# Altium schematic symbol library FPGA_Xilinx_Virtex7.SchLib: 34 symbols (part 1 of 26)
Pins are listed as number, name and electrical type; pins without a type are passive.

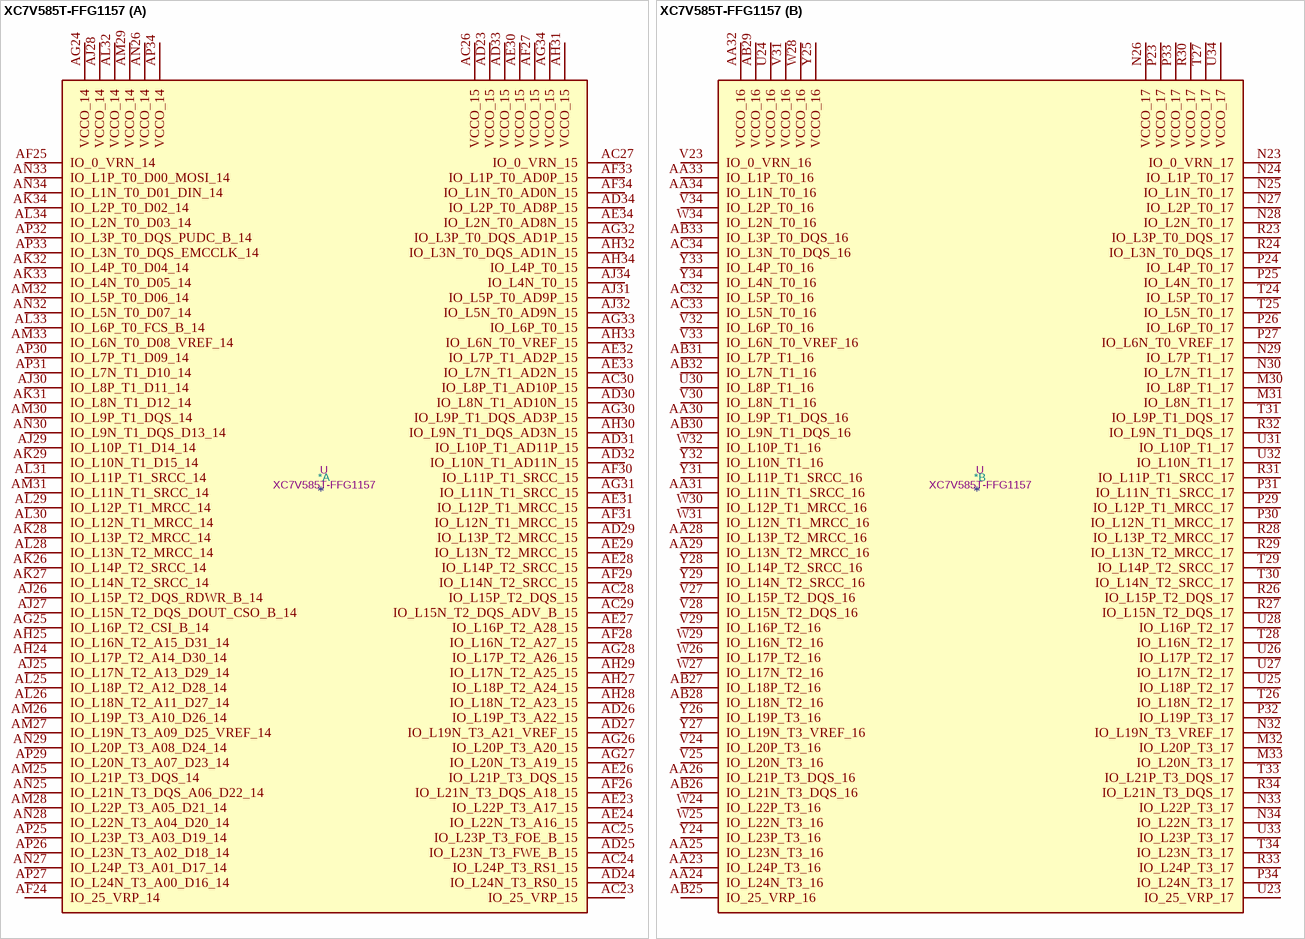
[diagram p0: symbol XC7V585T-FFG1157]

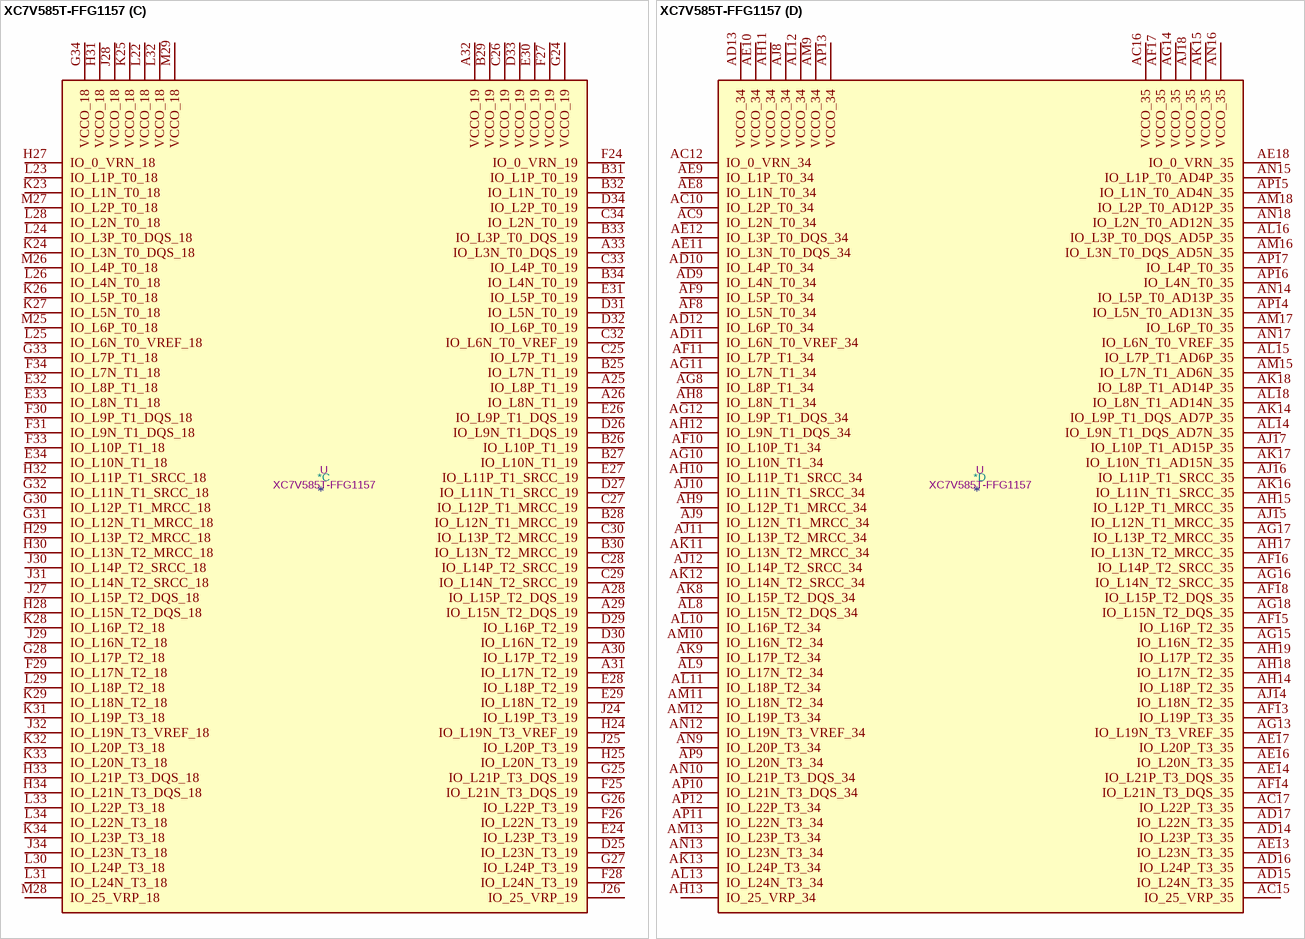
[diagram p1: symbol XC7V585T-FFG1157]

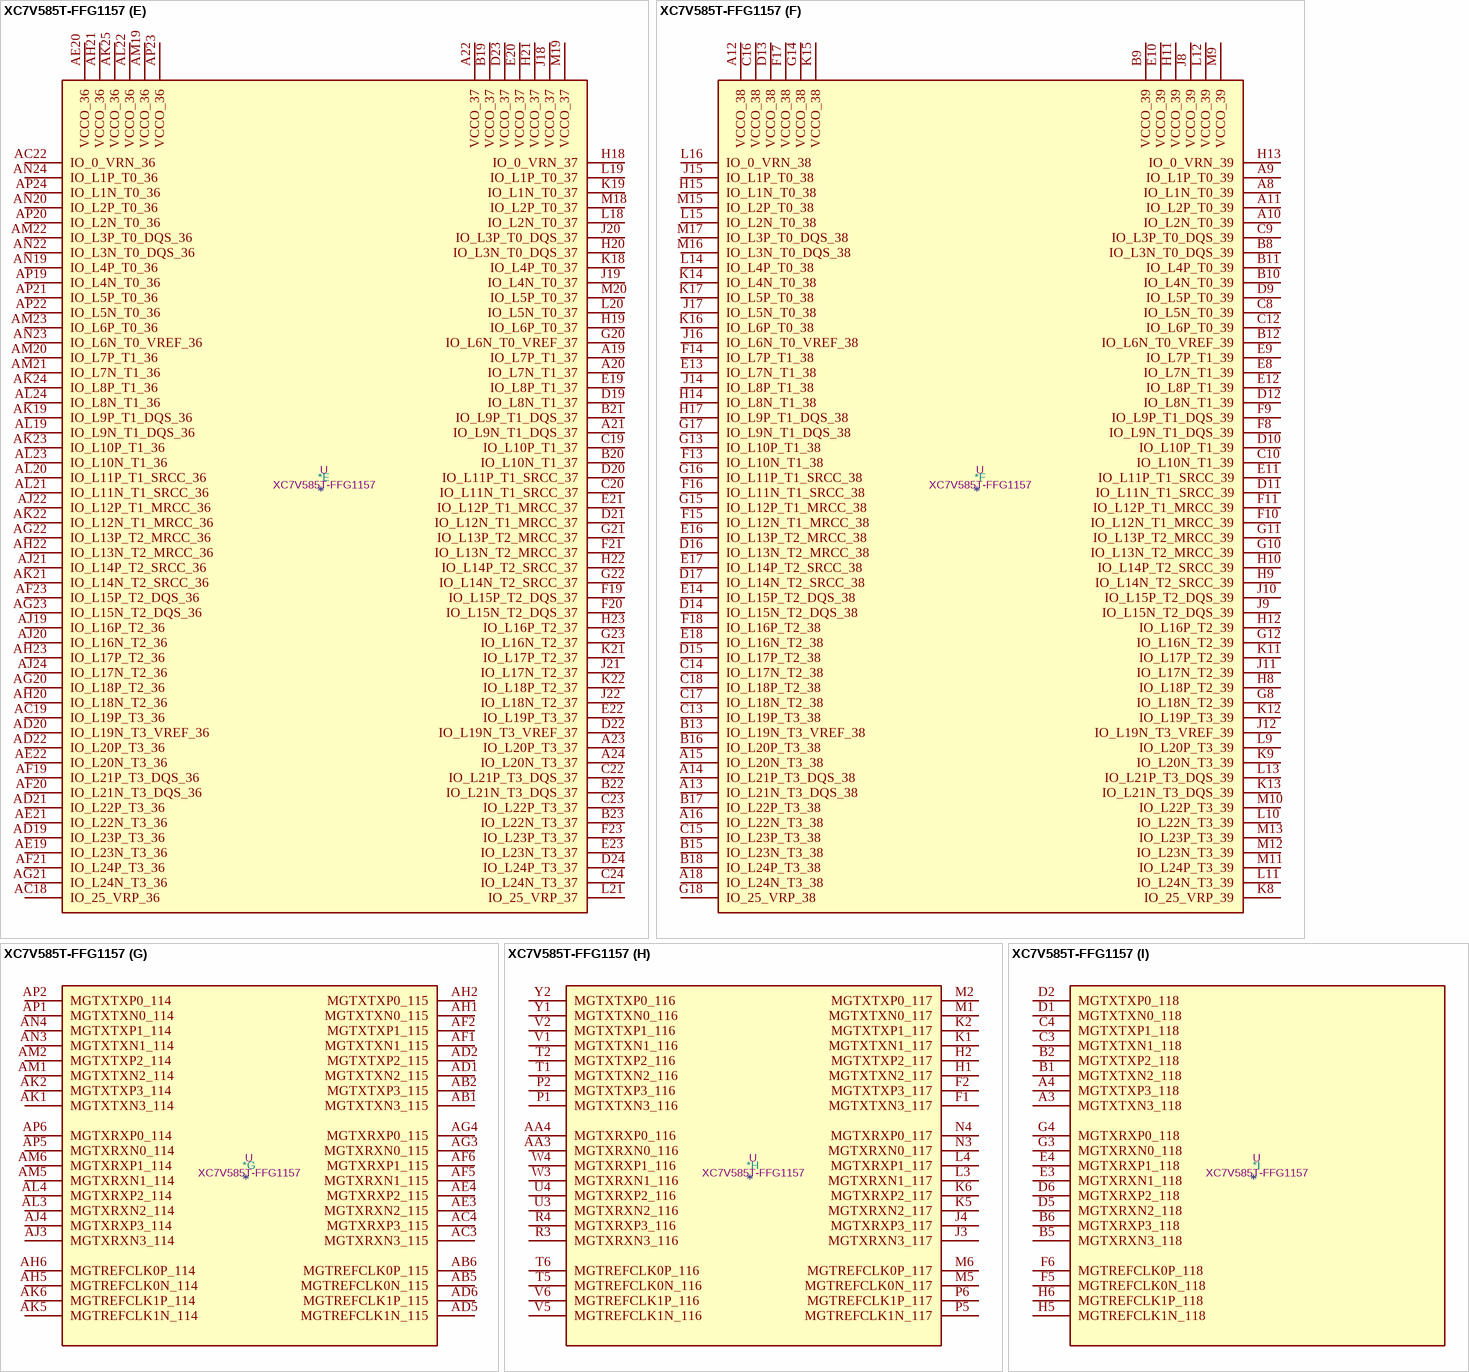
[diagram p2: symbol XC7V585T-FFG1157]

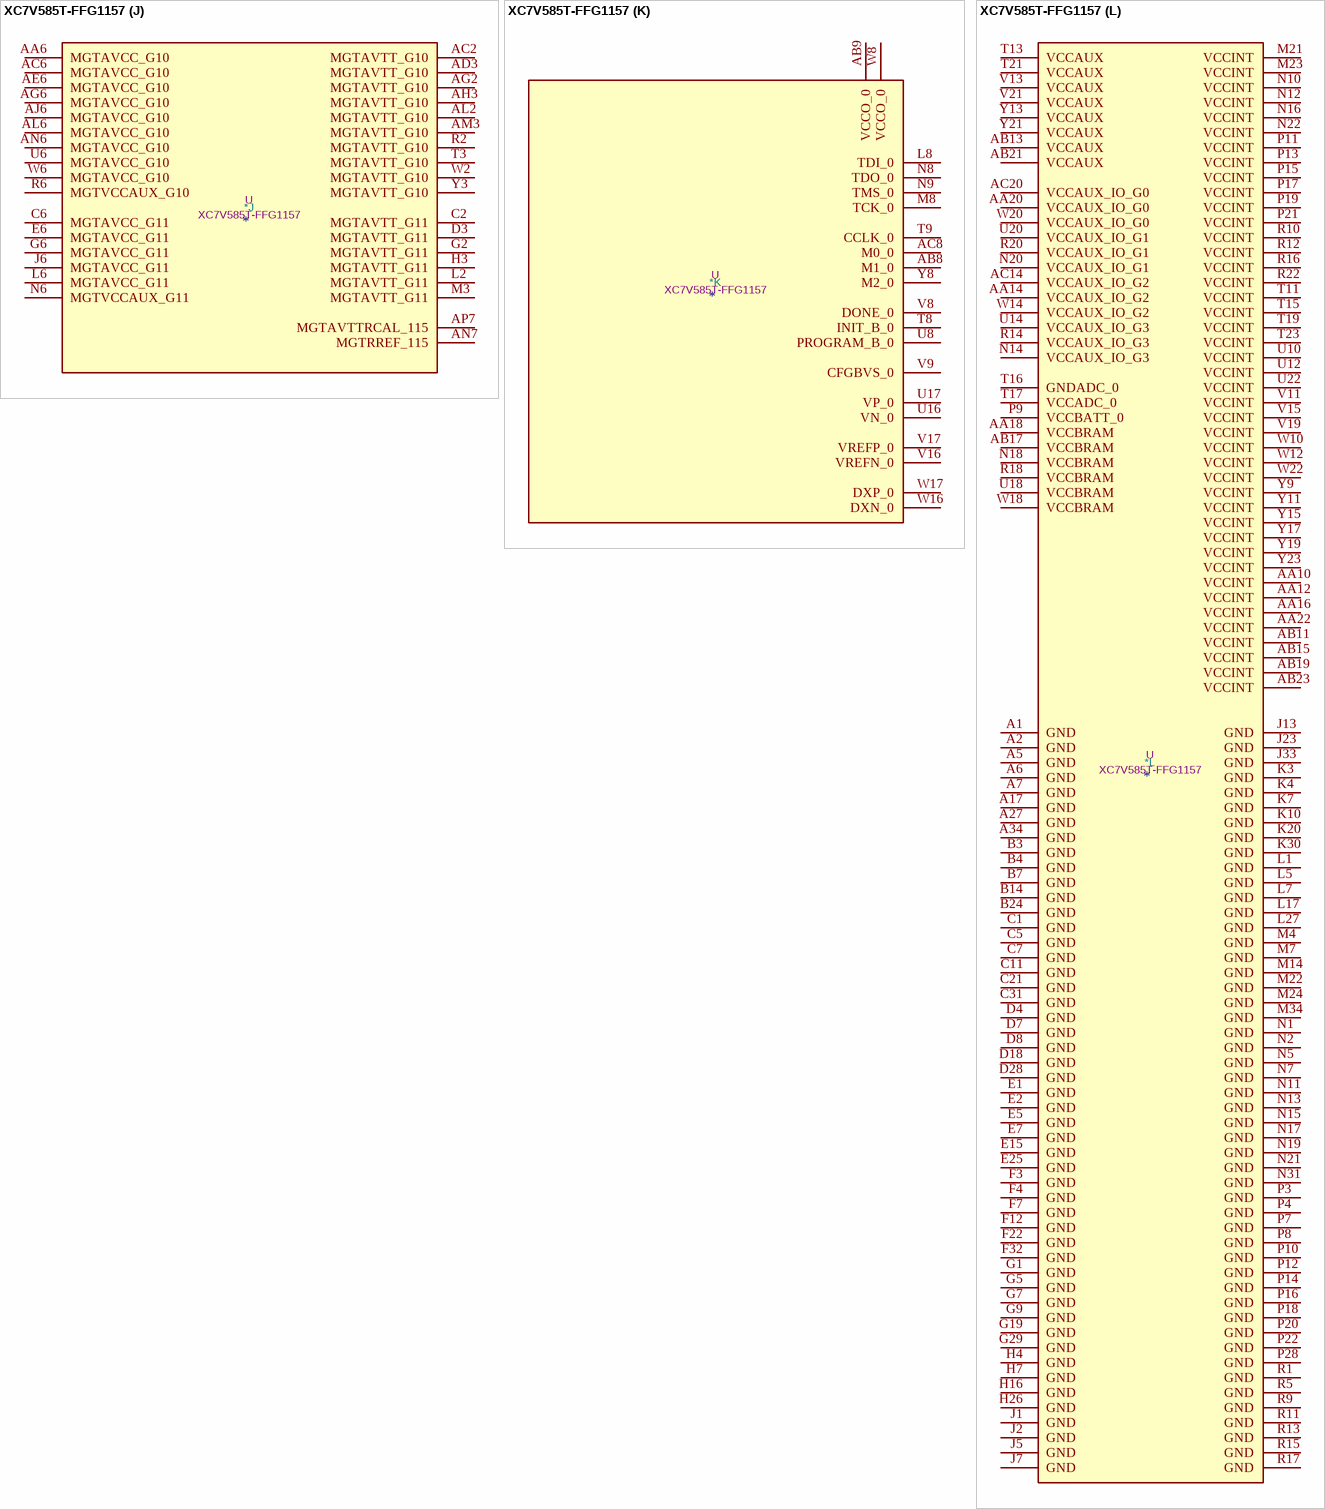
[diagram p3: symbol XC7V585T-FFG1157]

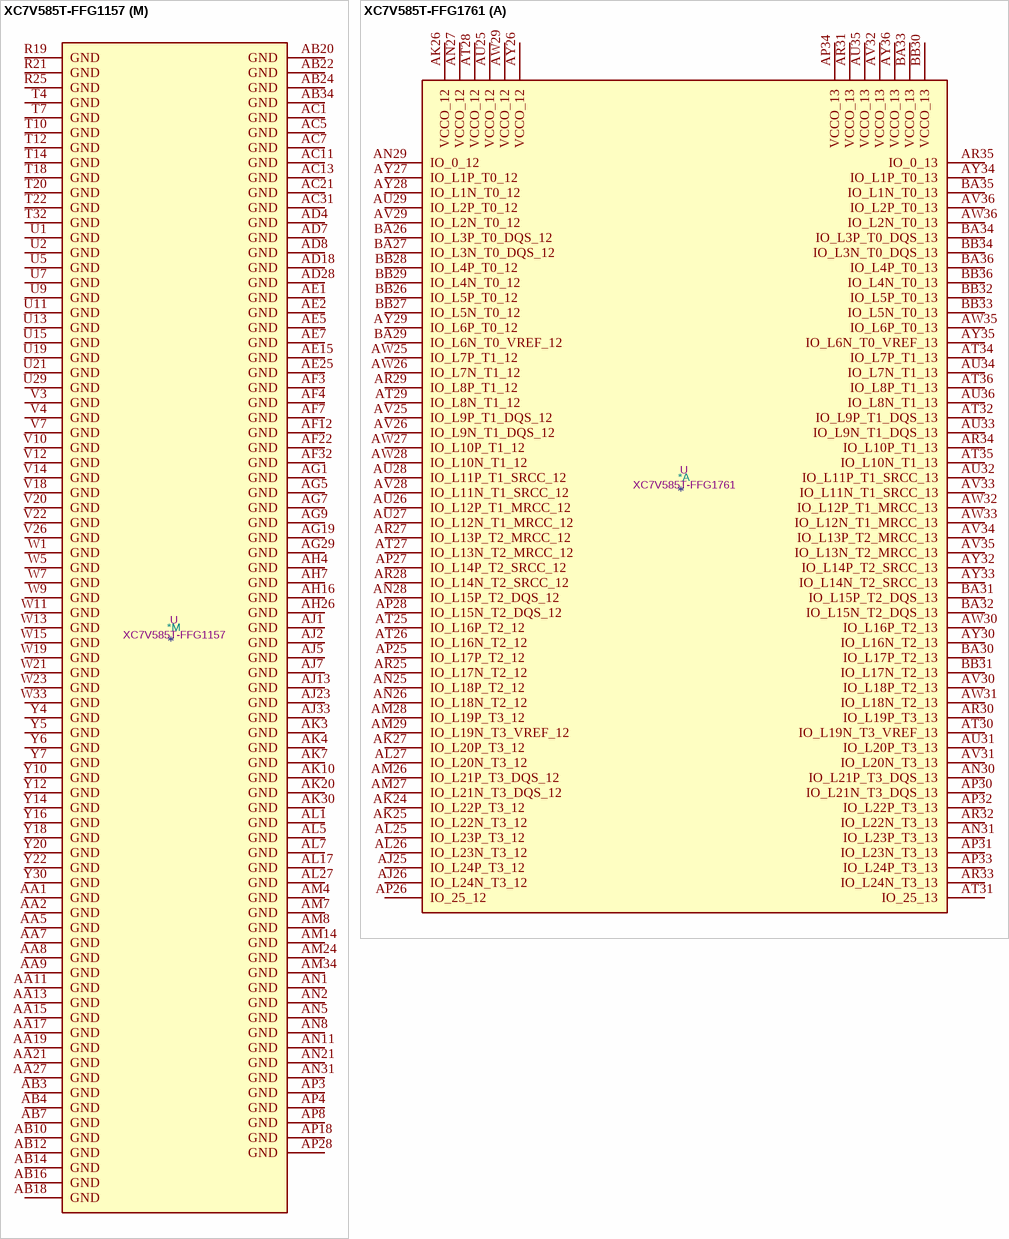
[diagram p4: symbols XC7V585T-FFG1157 to XC7V585T-FFG1761]

## XC7V585T-FFG1157
designator *  value XC7V585T-FFG1157  Reference: U
Virtex 7 T 585 XC7V585T-FFG1157; ki_keywords: FPGA; Description_: Virtex 7 T 585 XC7V585T-FFG1157
part A pins: AC23 IO_25_VRP_15, AC24 IO_L24P_T3_RS1_15, AC25 IO_L23P_T3_FOE_B_15, AC26 VCCO_15, AC27 IO_0_VRN_15, AC28 IO_L15P_T2_DQS_15, AC29 IO_L15N_T2_DQS_ADV_B_15, AC30 IO_L8P_T1_AD10P_15, AD23 VCCO_15, AD24 IO_L24N_T3_RS0_15, AD25 IO_L23N_T3_FWE_B_15, AD26 IO_L19P_T3_A22_15, AD27 IO_L19N_T3_A21_VREF_15, AD29 IO_L13P_T2_MRCC_15, AD30 IO_L8N_T1_AD10N_15, AD31 IO_L10P_T1_AD11P_15, AD32 IO_L10N_T1_AD11N_15, AD33 VCCO_15, AD34 IO_L2P_T0_AD8P_15, AE23 IO_L22P_T3_A17_15, AE24 IO_L22N_T3_A16_15, AE26 IO_L21P_T3_DQS_15, AE27 IO_L16P_T2_A28_15, AE28 IO_L14P_T2_SRCC_15, AE29 IO_L13N_T2_MRCC_15, AE30 VCCO_15, AE31 IO_L12P_T1_MRCC_15, AE32 IO_L7P_T1_AD2P_15, AE33 IO_L7N_T1_AD2N_15, AE34 IO_L2N_T0_AD8N_15, AF24 IO_25_VRP_14, AF25 IO_0_VRN_14, AF26 IO_L21N_T3_DQS_A18_15, AF27 VCCO_15, AF28 IO_L16N_T2_A27_15, AF29 IO_L14N_T2_SRCC_15, AF30 IO_L11P_T1_SRCC_15, AF31 IO_L12N_T1_MRCC_15, AF33 IO_L1P_T0_AD0P_15, AF34 IO_L1N_T0_AD0N_15, AG24 VCCO_14, AG25 IO_L16P_T2_CSI_B_14, AG26 IO_L20P_T3_A20_15, AG27 IO_L20N_T3_A19_15, AG28 IO_L17P_T2_A26_15, AG30 IO_L9P_T1_DQS_AD3P_15, AG31 IO_L11N_T1_SRCC_15, AG32 IO_L3P_T0_DQS_AD1P_15, AG33 IO_L6P_T0_15, AG34 VCCO_15, AH24 IO_L17P_T2_A14_D30_14, AH25 IO_L16N_T2_A15_D31_14, AH27 IO_L18P_T2_A24_15, AH28 IO_L18N_T2_A23_15, AH29 IO_L17N_T2_A25_15, AH30 IO_L9N_T1_DQS_AD3N_15, AH31 VCCO_15, AH32 IO_L3N_T0_DQS_AD1N_15, AH33 IO_L6N_T0_VREF_15, AH34 IO_L4P_T0_15, AJ25 IO_L17N_T2_A13_D29_14, AJ26 IO_L15P_T2_DQS_RDWR_B_14, AJ27 IO_L15N_T2_DQS_DOUT_CSO_B_14, AJ28 VCCO_14, AJ29 IO_L10P_T1_D14_14, AJ30 IO_L8P_T1_D11_14, AJ31 IO_L5P_T0_AD9P_15, AJ32 IO_L5N_T0_AD9N_15, AJ34 IO_L4N_T0_15, AK26 IO_L14P_T2_SRCC_14, AK27 IO_L14N_T2_SRCC_14, AK28 IO_L13P_T2_MRCC_14, AK29 IO_L10N_T1_D15_14, AK31 IO_L8N_T1_D12_14, AK32 IO_L4P_T0_D04_14, AK33 IO_L4N_T0_D05_14, AK34 IO_L2P_T0_D02_14, AL25 IO_L18P_T2_A12_D28_14, AL26 IO_L18N_T2_A11_D27_14, AL28 IO_L13N_T2_MRCC_14, AL29 IO_L12P_T1_MRCC_14, AL30 IO_L12N_T1_MRCC_14, AL31 IO_L11P_T1_SRCC_14, AL32 VCCO_14, AL33 IO_L6P_T0_FCS_B_14, AL34 IO_L2N_T0_D03_14, AM25 IO_L21P_T3_DQS_14, AM26 IO_L19P_T3_A10_D26_14, AM27 IO_L19N_T3_A09_D25_VREF_14, AM28 IO_L22P_T3_A05_D21_14, AM29 VCCO_14, AM30 IO_L9P_T1_DQS_14, AM31 IO_L11N_T1_SRCC_14, AM32 IO_L5P_T0_D06_14, AM33 IO_L6N_T0_D08_VREF_14, AN25 IO_L21N_T3_DQS_A06_D22_14, AN26 VCCO_14, AN27 IO_L24P_T3_A01_D17_14, AN28 IO_L22N_T3_A04_D20_14, AN29 IO_L20P_T3_A08_D24_14, AN30 IO_L9N_T1_DQS_D13_14, AN32 IO_L5N_T0_D07_14, AN33 IO_L1P_T0_D00_MOSI_14, AN34 IO_L1N_T0_D01_DIN_14, AP25 IO_L23P_T3_A03_D19_14, AP26 IO_L23N_T3_A02_D18_14, AP27 IO_L24N_T3_A00_D16_14, AP29 IO_L20N_T3_A07_D23_14, AP30 IO_L7P_T1_D09_14, AP31 IO_L7N_T1_D10_14, AP32 IO_L3P_T0_DQS_PUDC_B_14, AP33 IO_L3N_T0_DQS_EMCCLK_14, AP34 VCCO_14
part B pins: AA23 IO_L24P_T3_16, AA24 IO_L24N_T3_16, AA25 IO_L23N_T3_16, AA26 IO_L21P_T3_DQS_16, AA28 IO_L13P_T2_MRCC_16, AA29 IO_L13N_T2_MRCC_16, AA30 IO_L9P_T1_DQS_16, AA31 IO_L11N_T1_SRCC_16, AA32 VCCO_16, AA33 IO_L1P_T0_16, AA34 IO_L1N_T0_16, AB25 IO_25_VRP_16, AB26 IO_L21N_T3_DQS_16, AB27 IO_L18P_T2_16, AB28 IO_L18N_T2_16, AB29 VCCO_16, AB30 IO_L9N_T1_DQS_16, AB31 IO_L7P_T1_16, AB32 IO_L7N_T1_16, AB33 IO_L3P_T0_DQS_16, AC32 IO_L5P_T0_16, AC33 IO_L5N_T0_16, AC34 IO_L3N_T0_DQS_16, M30 IO_L8P_T1_17, M31 IO_L8N_T1_17, M32 IO_L20P_T3_17, M33 IO_L20N_T3_17, N23 IO_0_VRN_17, N24 IO_L1P_T0_17, N25 IO_L1N_T0_17, N26 VCCO_17, N27 IO_L2P_T0_17, N28 IO_L2N_T0_17, N29 IO_L7P_T1_17, N30 IO_L7N_T1_17, N32 IO_L19N_T3_VREF_17, N33 IO_L22P_T3_17, N34 IO_L22N_T3_17, P23 VCCO_17, P24 IO_L4P_T0_17, P25 IO_L4N_T0_17, P26 IO_L6P_T0_17, P27 IO_L6N_T0_VREF_17, P29 IO_L12P_T1_MRCC_17, P30 IO_L12N_T1_MRCC_17, P31 IO_L11N_T1_SRCC_17, P32 IO_L19P_T3_17, P33 VCCO_17, P34 IO_L24N_T3_17, R23 IO_L3P_T0_DQS_17, R24 IO_L3N_T0_DQS_17, R26 IO_L15P_T2_DQS_17, R27 IO_L15N_T2_DQS_17, R28 IO_L13P_T2_MRCC_17, R29 IO_L13N_T2_MRCC_17, R30 VCCO_17, R31 IO_L11P_T1_SRCC_17, R32 IO_L9N_T1_DQS_17, R33 IO_L24P_T3_17, R34 IO_L21N_T3_DQS_17, T24 IO_L5P_T0_17, T25 IO_L5N_T0_17, T26 IO_L18N_T2_17, T27 VCCO_17, T28 IO_L16N_T2_17, T29 IO_L14P_T2_SRCC_17, T30 IO_L14N_T2_SRCC_17, T31 IO_L9P_T1_DQS_17, T33 IO_L21P_T3_DQS_17, T34 IO_L23N_T3_17, U23 IO_25_VRP_17, U24 VCCO_16, U25 IO_L18P_T2_17, U26 IO_L17P_T2_17, U27 IO_L17N_T2_17, U28 IO_L16P_T2_17, U30 IO_L8P_T1_16, U31 IO_L10P_T1_17, U32 IO_L10N_T1_17, U33 IO_L23P_T3_17, U34 VCCO_17, V23 IO_0_VRN_16, V24 IO_L20P_T3_16, V25 IO_L20N_T3_16, V27 IO_L15P_T2_DQS_16, V28 IO_L15N_T2_DQS_16, V29 IO_L16P_T2_16, V30 IO_L8N_T1_16, V31 VCCO_16, V32 IO_L6P_T0_16, V33 IO_L6N_T0_VREF_16, V34 IO_L2P_T0_16, W24 IO_L22P_T3_16, W25 IO_L22N_T3_16, W26 IO_L17P_T2_16, W27 IO_L17N_T2_16, W28 VCCO_16, W29 IO_L16N_T2_16, W30 IO_L12P_T1_MRCC_16, W31 IO_L12N_T1_MRCC_16, W32 IO_L10P_T1_16, W34 IO_L2N_T0_16, Y24 IO_L23P_T3_16, Y25 VCCO_16, Y26 IO_L19P_T3_16, Y27 IO_L19N_T3_VREF_16, Y28 IO_L14P_T2_SRCC_16, Y29 IO_L14N_T2_SRCC_16, Y31 IO_L11P_T1_SRCC_16, Y32 IO_L10N_T1_16, Y33 IO_L4P_T0_16, Y34 IO_L4N_T0_16
part C pins: A25 IO_L8P_T1_19, A26 IO_L8N_T1_19, A28 IO_L15P_T2_DQS_19, A29 IO_L15N_T2_DQS_19, A30 IO_L17P_T2_19, A31 IO_L17N_T2_19, A32 VCCO_19, A33 IO_L3N_T0_DQS_19, B25 IO_L7N_T1_19, B26 IO_L10P_T1_19, B27 IO_L10N_T1_19, B28 IO_L12N_T1_MRCC_19, B29 VCCO_19, B30 IO_L13N_T2_MRCC_19, B31 IO_L1P_T0_19, B32 IO_L1N_T0_19, B33 IO_L3P_T0_DQS_19, B34 IO_L4N_T0_19, C25 IO_L7P_T1_19, C26 VCCO_19, C27 IO_L12P_T1_MRCC_19, C28 IO_L14P_T2_SRCC_19, C29 IO_L14N_T2_SRCC_19, C30 IO_L13P_T2_MRCC_19, C32 IO_L6N_T0_VREF_19, C33 IO_L4P_T0_19, C34 IO_L2N_T0_19, D25 IO_L23N_T3_19, D26 IO_L9N_T1_DQS_19, D27 IO_L11N_T1_SRCC_19, D29 IO_L16P_T2_19, D30 IO_L16N_T2_19, D31 IO_L5N_T0_19, D32 IO_L6P_T0_19, D33 VCCO_19, D34 IO_L2P_T0_19, E24 IO_L23P_T3_19, E26 IO_L9P_T1_DQS_19, E27 IO_L11P_T1_SRCC_19, E28 IO_L18P_T2_19, E29 IO_L18N_T2_19, E30 VCCO_19, E31 IO_L5P_T0_19, E32 IO_L8P_T1_18, E33 IO_L8N_T1_18, E34 IO_L10N_T1_18, F24 IO_0_VRN_19, F25 IO_L21N_T3_DQS_19, F26 IO_L22N_T3_19, F27 VCCO_19, F28 IO_L24N_T3_19, F29 IO_L17N_T2_18, F30 IO_L9P_T1_DQS_18, F31 IO_L9N_T1_DQS_18, F33 IO_L10P_T1_18, F34 IO_L7N_T1_18, G24 VCCO_19, G25 IO_L21P_T3_DQS_19, G26 IO_L22P_T3_19, G27 IO_L24P_T3_19, G28 IO_L17P_T2_18, G30 IO_L12P_T1_MRCC_18, G31 IO_L12N_T1_MRCC_18, G32 IO_L11N_T1_SRCC_18, G33 IO_L7P_T1_18, G34 VCCO_18, H24 IO_L19N_T3_VREF_19, H25 IO_L20N_T3_19, H27 IO_0_VRN_18, H28 IO_L15N_T2_DQS_18, H29 IO_L13P_T2_MRCC_18, H30 IO_L13N_T2_MRCC_18, H31 VCCO_18, H32 IO_L11P_T1_SRCC_18, H33 IO_L21P_T3_DQS_18, H34 IO_L21N_T3_DQS_18, J24 IO_L19P_T3_19, J25 IO_L20P_T3_19, J26 IO_25_VRP_19, J27 IO_L15P_T2_DQS_18, J28 VCCO_18, J29 IO_L16N_T2_18, J30 IO_L14P_T2_SRCC_18, J31 IO_L14N_T2_SRCC_18, J32 IO_L19N_T3_VREF_18, J34 IO_L23N_T3_18, K23 IO_L1N_T0_18, K24 IO_L3N_T0_DQS_18, K25 VCCO_18, K26 IO_L5P_T0_18, K27 IO_L5N_T0_18, K28 IO_L16P_T2_18, K29 IO_L18N_T2_18, K31 IO_L19P_T3_18, K32 IO_L20P_T3_18, K33 IO_L20N_T3_18, K34 IO_L23P_T3_18, L22 VCCO_18, L23 IO_L1P_T0_18, L24 IO_L3P_T0_DQS_18, L25 IO_L6N_T0_VREF_18, L26 IO_L4N_T0_18, L28 IO_L2N_T0_18, L29 IO_L18P_T2_18, L30 IO_L24P_T3_18, L31 IO_L24N_T3_18, L32 VCCO_18, L33 IO_L22P_T3_18, L34 IO_L22N_T3_18, M25 IO_L6P_T0_18, M26 IO_L4P_T0_18, M27 IO_L2P_T0_18, M28 IO_25_VRP_18, M29 VCCO_18
part D pins: AC9 IO_L2N_T0_34, AC10 IO_L2P_T0_34, AC12 IO_0_VRN_34, AC15 IO_25_VRP_35, AC16 VCCO_35, AC17 IO_L22P_T3_35, AD9 IO_L4N_T0_34, AD10 IO_L4P_T0_34, AD11 IO_L6N_T0_VREF_34, AD12 IO_L6P_T0_34, AD13 VCCO_34, AD14 IO_L23P_T3_35, AD15 IO_L24N_T3_35, AD16 IO_L24P_T3_35, AD17 IO_L22N_T3_35, AE8 IO_L1N_T0_34, AE9 IO_L1P_T0_34, AE10 VCCO_34, AE11 IO_L3N_T0_DQS_34, AE12 IO_L3P_T0_DQS_34, AE13 IO_L23N_T3_35, AE14 IO_L21P_T3_DQS_35, AE16 IO_L20N_T3_35, AE17 IO_L20P_T3_35, AE18 IO_0_VRN_35, AF8 IO_L5N_T0_34, AF9 IO_L5P_T0_34, AF10 IO_L10P_T1_34, AF11 IO_L7P_T1_34, AF13 IO_L19P_T3_35, AF14 IO_L21N_T3_DQS_35, AF15 IO_L16P_T2_35, AF16 IO_L14P_T2_SRCC_35, AF17 VCCO_35, AF18 IO_L15P_T2_DQS_35, AG8 IO_L8P_T1_34, AG10 IO_L10N_T1_34, AG11 IO_L7N_T1_34, AG12 IO_L9P_T1_DQS_34, AG13 IO_L19N_T3_VREF_35, AG14 VCCO_35, AG15 IO_L16N_T2_35, AG16 IO_L14N_T2_SRCC_35, AG17 IO_L13P_T2_MRCC_35, AG18 IO_L15N_T2_DQS_35, AH8 IO_L8N_T1_34, AH9 IO_L12P_T1_MRCC_34, AH10 IO_L11P_T1_SRCC_34, AH11 VCCO_34, AH12 IO_L9N_T1_DQS_34, AH13 IO_25_VRP_34, AH14 IO_L18P_T2_35, AH15 IO_L12P_T1_MRCC_35, AH17 IO_L13N_T2_MRCC_35, AH18 IO_L17N_T2_35, AH19 IO_L17P_T2_35, AJ8 VCCO_34, AJ9 IO_L12N_T1_MRCC_34, AJ10 IO_L11N_T1_SRCC_34, AJ11 IO_L13P_T2_MRCC_34, AJ12 IO_L14P_T2_SRCC_34, AJ14 IO_L18N_T2_35, AJ15 IO_L12N_T1_MRCC_35, AJ16 IO_L11P_T1_SRCC_35, AJ17 IO_L10P_T1_AD15P_35, AJ18 VCCO_35, AK8 IO_L15P_T2_DQS_34, AK9 IO_L17P_T2_34, AK11 IO_L13N_T2_MRCC_34, AK12 IO_L14N_T2_SRCC_34, AK13 IO_L24P_T3_34, AK14 IO_L9P_T1_DQS_AD7P_35, AK15 VCCO_35, AK16 IO_L11N_T1_SRCC_35, AK17 IO_L10N_T1_AD15N_35, AK18 IO_L8P_T1_AD14P_35, AL8 IO_L15N_T2_DQS_34, AL9 IO_L17N_T2_34, AL10 IO_L16P_T2_34, AL11 IO_L18P_T2_34, AL12 VCCO_34, AL13 IO_L24N_T3_34, AL14 IO_L9N_T1_DQS_AD7N_35, AL15 IO_L7P_T1_AD6P_35, AL16 IO_L3P_T0_DQS_AD5P_35, AL18 IO_L8N_T1_AD14N_35, AM9 VCCO_34, AM10 IO_L16N_T2_34, AM11 IO_L18N_T2_34, AM12 IO_L19P_T3_34, AM13 IO_L23P_T3_34, AM15 IO_L7N_T1_AD6N_35, AM16 IO_L3N_T0_DQS_AD5N_35, AM17 IO_L6P_T0_35, AM18 IO_L2P_T0_AD12P_35, AN9 IO_L20P_T3_34, AN10 IO_L21P_T3_DQS_34, AN12 IO_L19N_T3_VREF_34, AN13 IO_L23N_T3_34, AN14 IO_L5P_T0_AD13P_35, AN15 IO_L1P_T0_AD4P_35, AN16 VCCO_35, AN17 IO_L6N_T0_VREF_35, AN18 IO_L2N_T0_AD12N_35, AP9 IO_L20N_T3_34, AP10 IO_L21N_T3_DQS_34, AP11 IO_L22N_T3_34, AP12 IO_L22P_T3_34, AP13 VCCO_34, AP14 IO_L5N_T0_AD13N_35, AP15 IO_L1N_T0_AD4N_35, AP16 IO_L4N_T0_35, AP17 IO_L4P_T0_35
part E pins: A19 IO_L7P_T1_37, A20 IO_L7N_T1_37, A21 IO_L9N_T1_DQS_37, A22 VCCO_37, A23 IO_L20P_T3_37, A24 IO_L20N_T3_37, AC18 IO_25_VRP_36, AC19 IO_L19P_T3_36, AC22 IO_0_VRN_36, AD19 IO_L23P_T3_36, AD20 IO_L19N_T3_VREF_36, AD21 IO_L22P_T3_36, AD22 IO_L20P_T3_36, AE19 IO_L23N_T3_36, AE20 VCCO_36, AE21 IO_L22N_T3_36, AE22 IO_L20N_T3_36, AF19 IO_L21P_T3_DQS_36, AF20 IO_L21N_T3_DQS_36, AF21 IO_L24P_T3_36, AF23 IO_L15P_T2_DQS_36, AG20 IO_L18P_T2_36, AG21 IO_L24N_T3_36, AG22 IO_L13P_T2_MRCC_36, AG23 IO_L15N_T2_DQS_36, AH20 IO_L18N_T2_36, AH21 VCCO_36, AH22 IO_L13N_T2_MRCC_36, AH23 IO_L17P_T2_36, AJ19 IO_L16P_T2_36, AJ20 IO_L16N_T2_36, AJ21 IO_L14P_T2_SRCC_36, AJ22 IO_L12P_T1_MRCC_36, AJ24 IO_L17N_T2_36, AK19 IO_L9P_T1_DQS_36, AK21 IO_L14N_T2_SRCC_36, AK22 IO_L12N_T1_MRCC_36, AK23 IO_L10P_T1_36, AK24 IO_L8P_T1_36, AK25 VCCO_36, AL19 IO_L9N_T1_DQS_36, AL20 IO_L11P_T1_SRCC_36, AL21 IO_L11N_T1_SRCC_36, AL22 VCCO_36, AL23 IO_L10N_T1_36, AL24 IO_L8N_T1_36, AM19 VCCO_36, AM20 IO_L7P_T1_36, AM21 IO_L7N_T1_36, AM22 IO_L3P_T0_DQS_36, AM23 IO_L6P_T0_36, AN19 IO_L4P_T0_36, AN20 IO_L2P_T0_36, AN22 IO_L3N_T0_DQS_36, AN23 IO_L6N_T0_VREF_36, AN24 IO_L1P_T0_36, AP19 IO_L4N_T0_36, AP20 IO_L2N_T0_36, AP21 IO_L5P_T0_36, AP22 IO_L5N_T0_36, AP23 VCCO_36, AP24 IO_L1N_T0_36, B19 VCCO_37, B20 IO_L10N_T1_37, B21 IO_L9P_T1_DQS_37, B22 IO_L21N_T3_DQS_37, B23 IO_L22N_T3_37, C19 IO_L10P_T1_37, C20 IO_L11N_T1_SRCC_37, C22 IO_L21P_T3_DQS_37, C23 IO_L22P_T3_37, C24 IO_L24N_T3_37, D19 IO_L8N_T1_37, D20 IO_L11P_T1_SRCC_37, D21 IO_L12N_T1_MRCC_37, D22 IO_L19N_T3_VREF_37, D23 VCCO_37, D24 IO_L24P_T3_37, E19 IO_L8P_T1_37, E20 VCCO_37, E21 IO_L12P_T1_MRCC_37, E22 IO_L19P_T3_37, E23 IO_L23N_T3_37, F19 IO_L15P_T2_DQS_37, F20 IO_L15N_T2_DQS_37, F21 IO_L13N_T2_MRCC_37, F23 IO_L23P_T3_37, G20 IO_L6N_T0_VREF_37, G21 IO_L13P_T2_MRCC_37, G22 IO_L14N_T2_SRCC_37, G23 IO_L16N_T2_37, H18 IO_0_VRN_37, H19 IO_L6P_T0_37, H20 IO_L3N_T0_DQS_37, H21 VCCO_37, H22 IO_L14P_T2_SRCC_37, H23 IO_L16P_T2_37, J18 VCCO_37, J19 IO_L4N_T0_37, J20 IO_L3P_T0_DQS_37, J21 IO_L17N_T2_37, J22 IO_L18N_T2_37, K18 IO_L4P_T0_37, K19 IO_L1N_T0_37, K21 IO_L17P_T2_37, K22 IO_L18P_T2_37, L18 IO_L2N_T0_37, L19 IO_L1P_T0_37, L20 IO_L5N_T0_37, L21 IO_25_VRP_37, M18 IO_L2P_T0_37, M19 VCCO_37, M20 IO_L5P_T0_37
part F pins: A8 IO_L1N_T0_39, A9 IO_L1P_T0_39, A10 IO_L2N_T0_39, A11 IO_L2P_T0_39, A12 VCCO_38, A13 IO_L21N_T3_DQS_38, A14 IO_L21P_T3_DQS_38, A15 IO_L20N_T3_38, A16 IO_L22N_T3_38, A18 IO_L24N_T3_38, B8 IO_L3N_T0_DQS_39, B9 VCCO_39, B10 IO_L4N_T0_39, B11 IO_L4P_T0_39, B12 IO_L6N_T0_VREF_39, B13 IO_L19N_T3_VREF_38, B15 IO_L23N_T3_38, B16 IO_L20P_T3_38, B17 IO_L22P_T3_38, B18 IO_L24P_T3_38, C8 IO_L5N_T0_39, C9 IO_L3P_T0_DQS_39, C10 IO_L10N_T1_39, C12 IO_L6P_T0_39, C13 IO_L19P_T3_38, C14 IO_L17N_T2_38, C15 IO_L23P_T3_38, C16 VCCO_38, C17 IO_L18N_T2_38, C18 IO_L18P_T2_38, D9 IO_L5P_T0_39, D10 IO_L10P_T1_39, D11 IO_L11N_T1_SRCC_39, D12 IO_L8N_T1_39, D13 VCCO_38, D14 IO_L15N_T2_DQS_38, D15 IO_L17P_T2_38, D16 IO_L13N_T2_MRCC_38, D17 IO_L14N_T2_SRCC_38, E8 IO_L7N_T1_39, E9 IO_L7P_T1_39, E10 VCCO_39, E11 IO_L11P_T1_SRCC_39, E12 IO_L8P_T1_39, E13 IO_L7N_T1_38, E14 IO_L15P_T2_DQS_38, E16 IO_L13P_T2_MRCC_38, E17 IO_L14P_T2_SRCC_38, E18 IO_L16N_T2_38, F8 IO_L9N_T1_DQS_39, F9 IO_L9P_T1_DQS_39, F10 IO_L12N_T1_MRCC_39, F11 IO_L12P_T1_MRCC_39, F13 IO_L10N_T1_38, F14 IO_L7P_T1_38, F15 IO_L12N_T1_MRCC_38, F16 IO_L11N_T1_SRCC_38, F17 VCCO_38, F18 IO_L16P_T2_38, G8 IO_L18N_T2_39, G10 IO_L13N_T2_MRCC_39, G11 IO_L13P_T2_MRCC_39, G12 IO_L16N_T2_39, G13 IO_L10P_T1_38, G14 VCCO_38, G15 IO_L12P_T1_MRCC_38, G16 IO_L11P_T1_SRCC_38, G17 IO_L9N_T1_DQS_38, G18 IO_25_VRP_38, H8 IO_L18P_T2_39, H9 IO_L14N_T2_SRCC_39, H10 IO_L14P_T2_SRCC_39, H11 VCCO_39, H12 IO_L16P_T2_39, H13 IO_0_VRN_39, H14 IO_L8N_T1_38, H15 IO_L1N_T0_38, H17 IO_L9P_T1_DQS_38, J8 VCCO_39, J9 IO_L15N_T2_DQS_39, J10 IO_L15P_T2_DQS_39, J11 IO_L17N_T2_39, J12 IO_L19N_T3_VREF_39, J14 IO_L8P_T1_38, J15 IO_L1P_T0_38, J16 IO_L6N_T0_VREF_38, J17 IO_L5N_T0_38, K8 IO_25_VRP_39, K9 IO_L20N_T3_39, K11 IO_L17P_T2_39, K12 IO_L19P_T3_39, K13 IO_L21N_T3_DQS_39, K14 IO_L4N_T0_38, K15 VCCO_38, K16 IO_L6P_T0_38, K17 IO_L5P_T0_38, L9 IO_L20P_T3_39, L10 IO_L22N_T3_39, L11 IO_L24N_T3_39, L12 VCCO_39, L13 IO_L21P_T3_DQS_39, L14 IO_L4P_T0_38, L15 IO_L2N_T0_38, L16 IO_0_VRN_38, M9 VCCO_39, M10 IO_L22P_T3_39, M11 IO_L24P_T3_39, M12 IO_L23N_T3_39, M13 IO_L23P_T3_39, M15 IO_L2P_T0_38, M16 IO_L3N_T0_DQS_38, M17 IO_L3P_T0_DQS_38
part G pins: AB1 MGTXTXN3_115, AB2 MGTXTXP3_115, AB5 MGTREFCLK0N_115, AB6 MGTREFCLK0P_115, AC3 MGTXRXN3_115, AC4 MGTXRXP3_115, AD1 MGTXTXN2_115, AD2 MGTXTXP2_115, AD5 MGTREFCLK1N_115, AD6 MGTREFCLK1P_115, AE3 MGTXRXN2_115, AE4 MGTXRXP2_115, AF1 MGTXTXN1_115, AF2 MGTXTXP1_115, AF5 MGTXRXN1_115, AF6 MGTXRXP1_115, AG3 MGTXRXN0_115, AG4 MGTXRXP0_115, AH1 MGTXTXN0_115, AH2 MGTXTXP0_115, AH5 MGTREFCLK0N_114, AH6 MGTREFCLK0P_114, AJ3 MGTXRXN3_114, AJ4 MGTXRXP3_114, AK1 MGTXTXN3_114, AK2 MGTXTXP3_114, AK5 MGTREFCLK1N_114, AK6 MGTREFCLK1P_114, AL3 MGTXRXN2_114, AL4 MGTXRXP2_114, AM1 MGTXTXN2_114, AM2 MGTXTXP2_114, AM5 MGTXRXN1_114, AM6 MGTXRXP1_114, AN3 MGTXTXN1_114, AN4 MGTXTXP1_114, AP1 MGTXTXN0_114, AP2 MGTXTXP0_114, AP5 MGTXRXN0_114, AP6 MGTXRXP0_114
part H pins: AA3 MGTXRXN0_116, AA4 MGTXRXP0_116, F1 MGTXTXN3_117, F2 MGTXTXP3_117, H1 MGTXTXN2_117, H2 MGTXTXP2_117, J3 MGTXRXN3_117, J4 MGTXRXP3_117, K1 MGTXTXN1_117, K2 MGTXTXP1_117, K5 MGTXRXN2_117, K6 MGTXRXP2_117, L3 MGTXRXN1_117, L4 MGTXRXP1_117, M1 MGTXTXN0_117, M2 MGTXTXP0_117, M5 MGTREFCLK0N_117, M6 MGTREFCLK0P_117, N3 MGTXRXN0_117, N4 MGTXRXP0_117, P1 MGTXTXN3_116, P2 MGTXTXP3_116, P5 MGTREFCLK1N_117, P6 MGTREFCLK1P_117, R3 MGTXRXN3_116, R4 MGTXRXP3_116, T1 MGTXTXN2_116, T2 MGTXTXP2_116, T5 MGTREFCLK0N_116, T6 MGTREFCLK0P_116, U3 MGTXRXN2_116, U4 MGTXRXP2_116, V1 MGTXTXN1_116, V2 MGTXTXP1_116, V5 MGTREFCLK1N_116, V6 MGTREFCLK1P_116, W3 MGTXRXN1_116, W4 MGTXRXP1_116, Y1 MGTXTXN0_116, Y2 MGTXTXP0_116
part I pins: A3 MGTXTXN3_118, A4 MGTXTXP3_118, B1 MGTXTXN2_118, B2 MGTXTXP2_118, B5 MGTXRXN3_118, B6 MGTXRXP3_118, C3 MGTXTXN1_118, C4 MGTXTXP1_118, D1 MGTXTXN0_118, D2 MGTXTXP0_118, D5 MGTXRXN2_118, D6 MGTXRXP2_118, E3 MGTXRXN1_118, E4 MGTXRXP1_118, F5 MGTREFCLK0N_118, F6 MGTREFCLK0P_118, G3 MGTXRXN0_118, G4 MGTXRXP0_118, H5 MGTREFCLK1N_118, H6 MGTREFCLK1P_118
part J pins: AA6 MGTAVCC_G10, AC2 MGTAVTT_G10, AC6 MGTAVCC_G10, AD3 MGTAVTT_G10, AE6 MGTAVCC_G10, AG2 MGTAVTT_G10, AG6 MGTAVCC_G10, AH3 MGTAVTT_G10, AJ6 MGTAVCC_G10, AL2 MGTAVTT_G10, AL6 MGTAVCC_G10, AM3 MGTAVTT_G10, AN6 MGTAVCC_G10, AN7 MGTRREF_115, AP7 MGTAVTTRCAL_115, C2 MGTAVTT_G11, C6 MGTAVCC_G11, D3 MGTAVTT_G11, E6 MGTAVCC_G11, G2 MGTAVTT_G11, G6 MGTAVCC_G11, H3 MGTAVTT_G11, J6 MGTAVCC_G11, L2 MGTAVTT_G11, L6 MGTAVCC_G11, M3 MGTAVTT_G11, N6 MGTVCCAUX_G11, R2 MGTAVTT_G10, R6 MGTVCCAUX_G10, T3 MGTAVTT_G10, U6 MGTAVCC_G10, W2 MGTAVTT_G10, W6 MGTAVCC_G10, Y3 MGTAVTT_G10
part K pins: AB8 M1_0, AB9 VCCO_0, AC8 M0_0, L8 TDI_0, M8 TCK_0, N8 TDO_0, N9 TMS_0, T8 INIT_B_0, T9 CCLK_0, U8 PROGRAM_B_0, U16 VN_0, U17 VP_0, V8 DONE_0, V9 CFGBVS_0, V16 VREFN_0, V17 VREFP_0, W8 VCCO_0, W16 DXN_0, W17 DXP_0, Y8 M2_0
part L pins: A1 GND, A2 GND, A5 GND, A6 GND, A7 GND, A17 GND, A27 GND, A34 GND, AA10 VCCINT, AA12 VCCINT, AA14 VCCAUX_IO_G2, AA16 VCCINT, AA18 VCCBRAM, AA20 VCCAUX_IO_G0, AA22 VCCINT, AB11 VCCINT, AB13 VCCAUX, AB15 VCCINT, AB17 VCCBRAM, AB19 VCCINT, AB21 VCCAUX, AB23 VCCINT, AC14 VCCAUX_IO_G2, AC20 VCCAUX_IO_G0, B3 GND, B4 GND, B7 GND, B14 GND, B24 GND, C1 GND, C5 GND, C7 GND, C11 GND, C21 GND, C31 GND, D4 GND, D7 GND, D8 GND, D18 GND, D28 GND, E1 GND, E2 GND, E5 GND, E7 GND, E15 GND, E25 GND, F3 GND, F4 GND, F7 GND, F12 GND, F22 GND, F32 GND, G1 GND, G5 GND, G7 GND, G9 GND, G19 GND, G29 GND, H4 GND, H7 GND, H16 GND, H26 GND, J1 GND, J2 GND, J5 GND, J7 GND, J13 GND, J23 GND, J33 GND, K3 GND, K4 GND, K7 GND, K10 GND, K20 GND, K30 GND, L1 GND, L5 GND, L7 GND, L17 GND, L27 GND, M4 GND, M7 GND, M14 GND, M21 VCCINT, M22 GND, M23 VCCINT, M24 GND, M34 GND, N1 GND, N2 GND, N5 GND, N7 GND, N10 VCCINT, N11 GND, N12 VCCINT, N13 GND, N14 VCCAUX_IO_G3, N15 GND, N16 VCCINT, N17 GND, N18 VCCBRAM, N19 GND, N20 VCCAUX_IO_G1, N21 GND, N22 VCCINT, N31 GND, P3 GND, P4 GND, P7 GND, P8 GND, P9 VCCBATT_0, P10 GND, P11 VCCINT, P12 GND, P13 VCCINT, P14 GND, P15 VCCINT, P16 GND, P17 VCCINT, P18 GND, P19 VCCINT, P20 GND, P21 VCCINT, P22 GND, P28 GND, R1 GND, R5 GND, R9 GND, R10 VCCINT, R11 GND, R12 VCCINT, R13 GND, R14 VCCAUX_IO_G3, R15 GND, R16 VCCINT, R17 GND, R18 VCCBRAM, R20 VCCAUX_IO_G1, R22 VCCINT, T11 VCCINT, T13 VCCAUX, T15 VCCINT, T16 GNDADC_0, T17 VCCADC_0, T19 VCCINT, T21 VCCAUX, T23 VCCINT, U10 VCCINT, U12 VCCINT, U14 VCCAUX_IO_G3, U18 VCCBRAM, U20 VCCAUX_IO_G1, U22 VCCINT, V11 VCCINT, V13 VCCAUX, V15 VCCINT, V19 VCCINT, V21 VCCAUX, W10 VCCINT, W12 VCCINT, W14 VCCAUX_IO_G2, W18 VCCBRAM, W20 VCCAUX_IO_G0, W22 VCCINT, Y9 VCCINT, Y11 VCCINT, Y13 VCCAUX, Y15 VCCINT, Y17 VCCINT, Y19 VCCINT, Y21 VCCAUX, Y23 VCCINT
part M pins: AA1 GND, AA2 GND, AA5 GND, AA7 GND, AA8 GND, AA9 GND, AA11 GND, AA13 GND, AA15 GND, AA17 GND, AA19 GND, AA21 GND, AA27 GND, AB3 GND, AB4 GND, AB7 GND, AB10 GND, AB12 GND, AB14 GND, AB16 GND, AB18 GND, AB20 GND, AB22 GND, AB24 GND, AB34 GND, AC1 GND, AC5 GND, AC7 GND, AC11 GND, AC13 GND, AC21 GND, AC31 GND, AD4 GND, AD7 GND, AD8 GND, AD18 GND, AD28 GND, AE1 GND, AE2 GND, AE5 GND, AE7 GND, AE15 GND, AE25 GND, AF3 GND, AF4 GND, AF7 GND, AF12 GND, AF22 GND, AF32 GND, AG1 GND, AG5 GND, AG7 GND, AG9 GND, AG19 GND, AG29 GND, AH4 GND, AH7 GND, AH16 GND, AH26 GND, AJ1 GND, AJ2 GND, AJ5 GND, AJ7 GND, AJ13 GND, AJ23 GND, AJ33 GND, AK3 GND, AK4 GND, AK7 GND, AK10 GND, AK20 GND, AK30 GND, AL1 GND, AL5 GND, AL7 GND, AL17 GND, AL27 GND, AM4 GND, AM7 GND, AM8 GND, AM14 GND, AM24 GND, AM34 GND, AN1 GND, AN2 GND, AN5 GND, AN8 GND, AN11 GND, AN21 GND, AN31 GND, AP3 GND, AP4 GND, AP8 GND, AP18 GND, AP28 GND, R19 GND, R21 GND, R25 GND, T4 GND, T7 GND, T10 GND, T12 GND, T14 GND, T18 GND, T20 GND, T22 GND, T32 GND, U1 GND, U2 GND, U5 GND, U7 GND, U9 GND, U11 GND, U13 GND, U15 GND, U19 GND, U21 GND, U29 GND, V3 GND, V4 GND, V7 GND, V10 GND, V12 GND, V14 GND, V18 GND, V20 GND, V22 GND, V26 GND, W1 GND, W5 GND, W7 GND, W9 GND, W11 GND, W13 GND, W15 GND, W19 GND, W21 GND, W23 GND, W33 GND, Y4 GND, Y5 GND, Y6 GND, Y7 GND, Y10 GND, Y12 GND, Y14 GND, Y16 GND, Y18 GND, Y20 GND, Y22 GND, Y30 GND

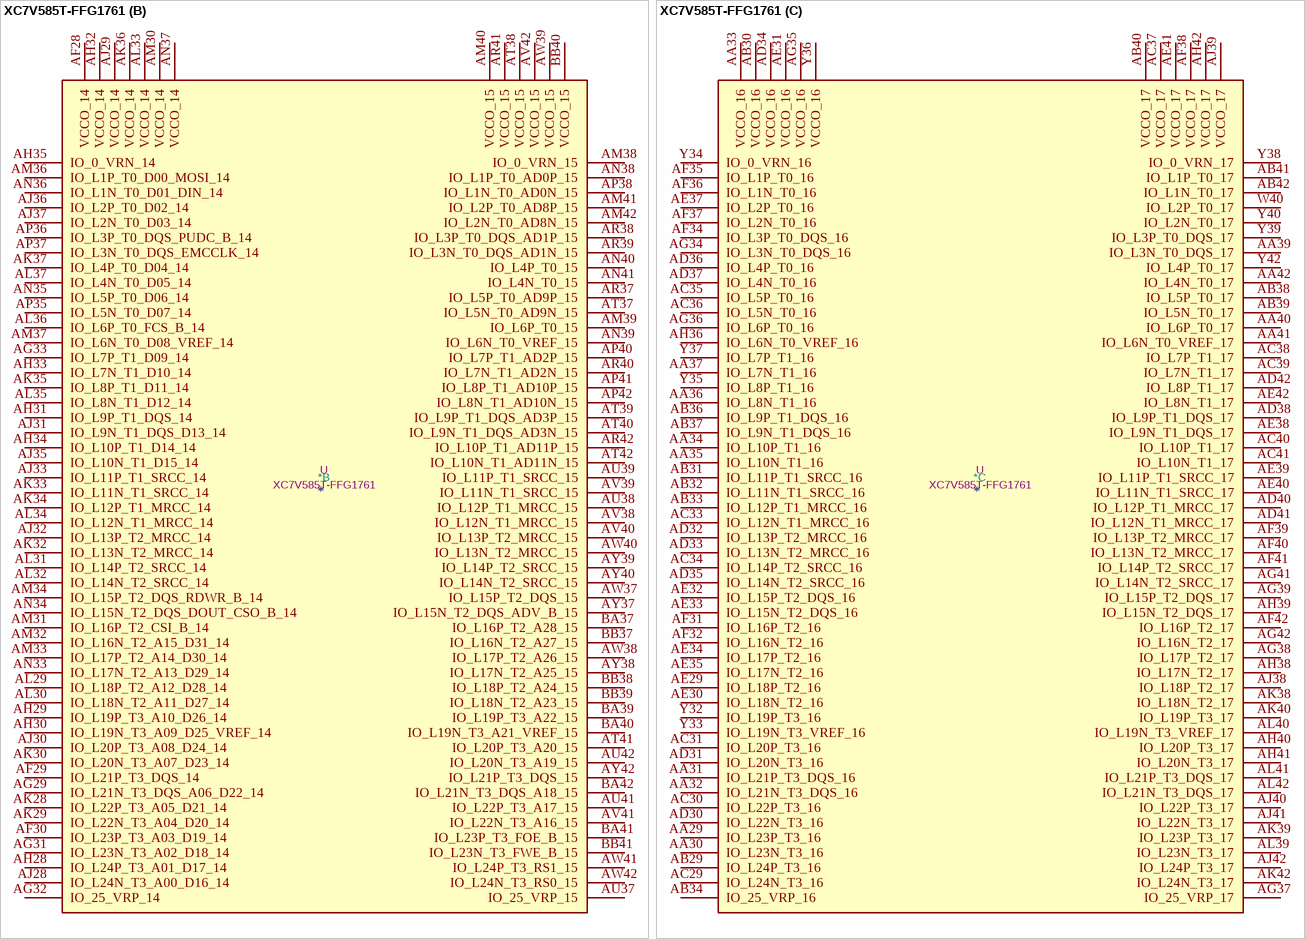
[diagram p5: symbol XC7V585T-FFG1761]

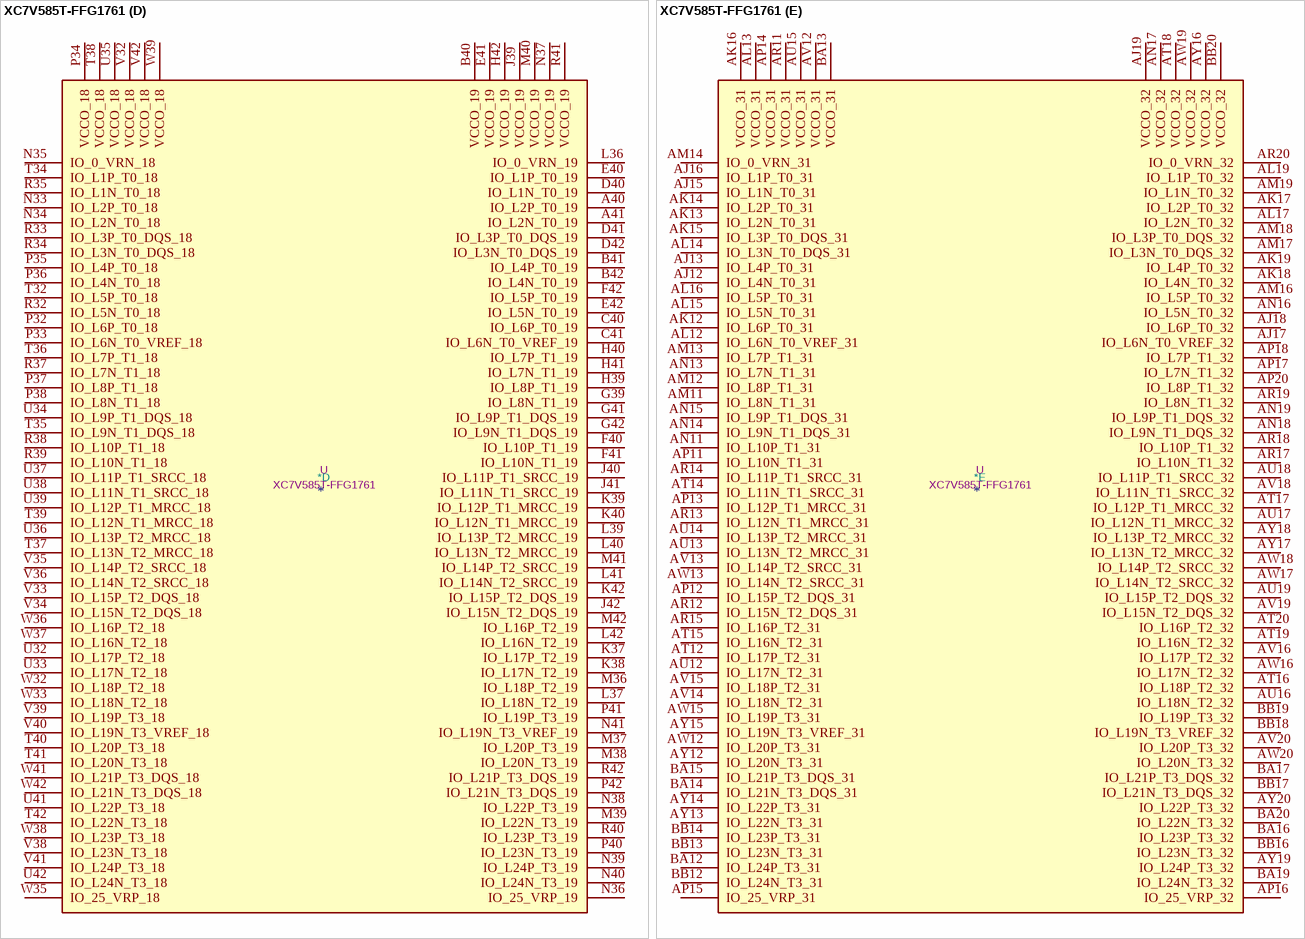
[diagram p6: symbol XC7V585T-FFG1761]

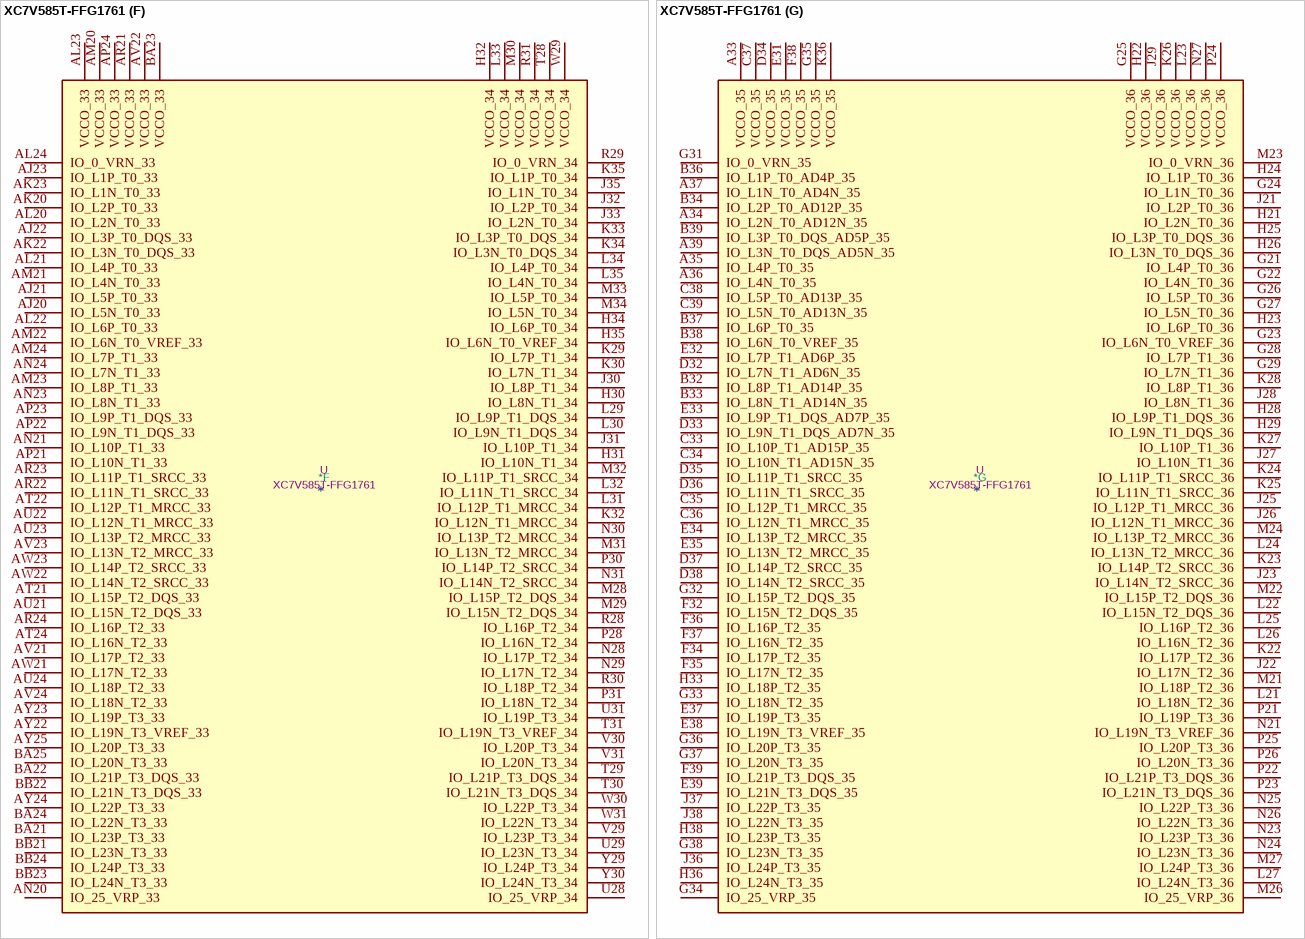
[diagram p7: symbol XC7V585T-FFG1761]

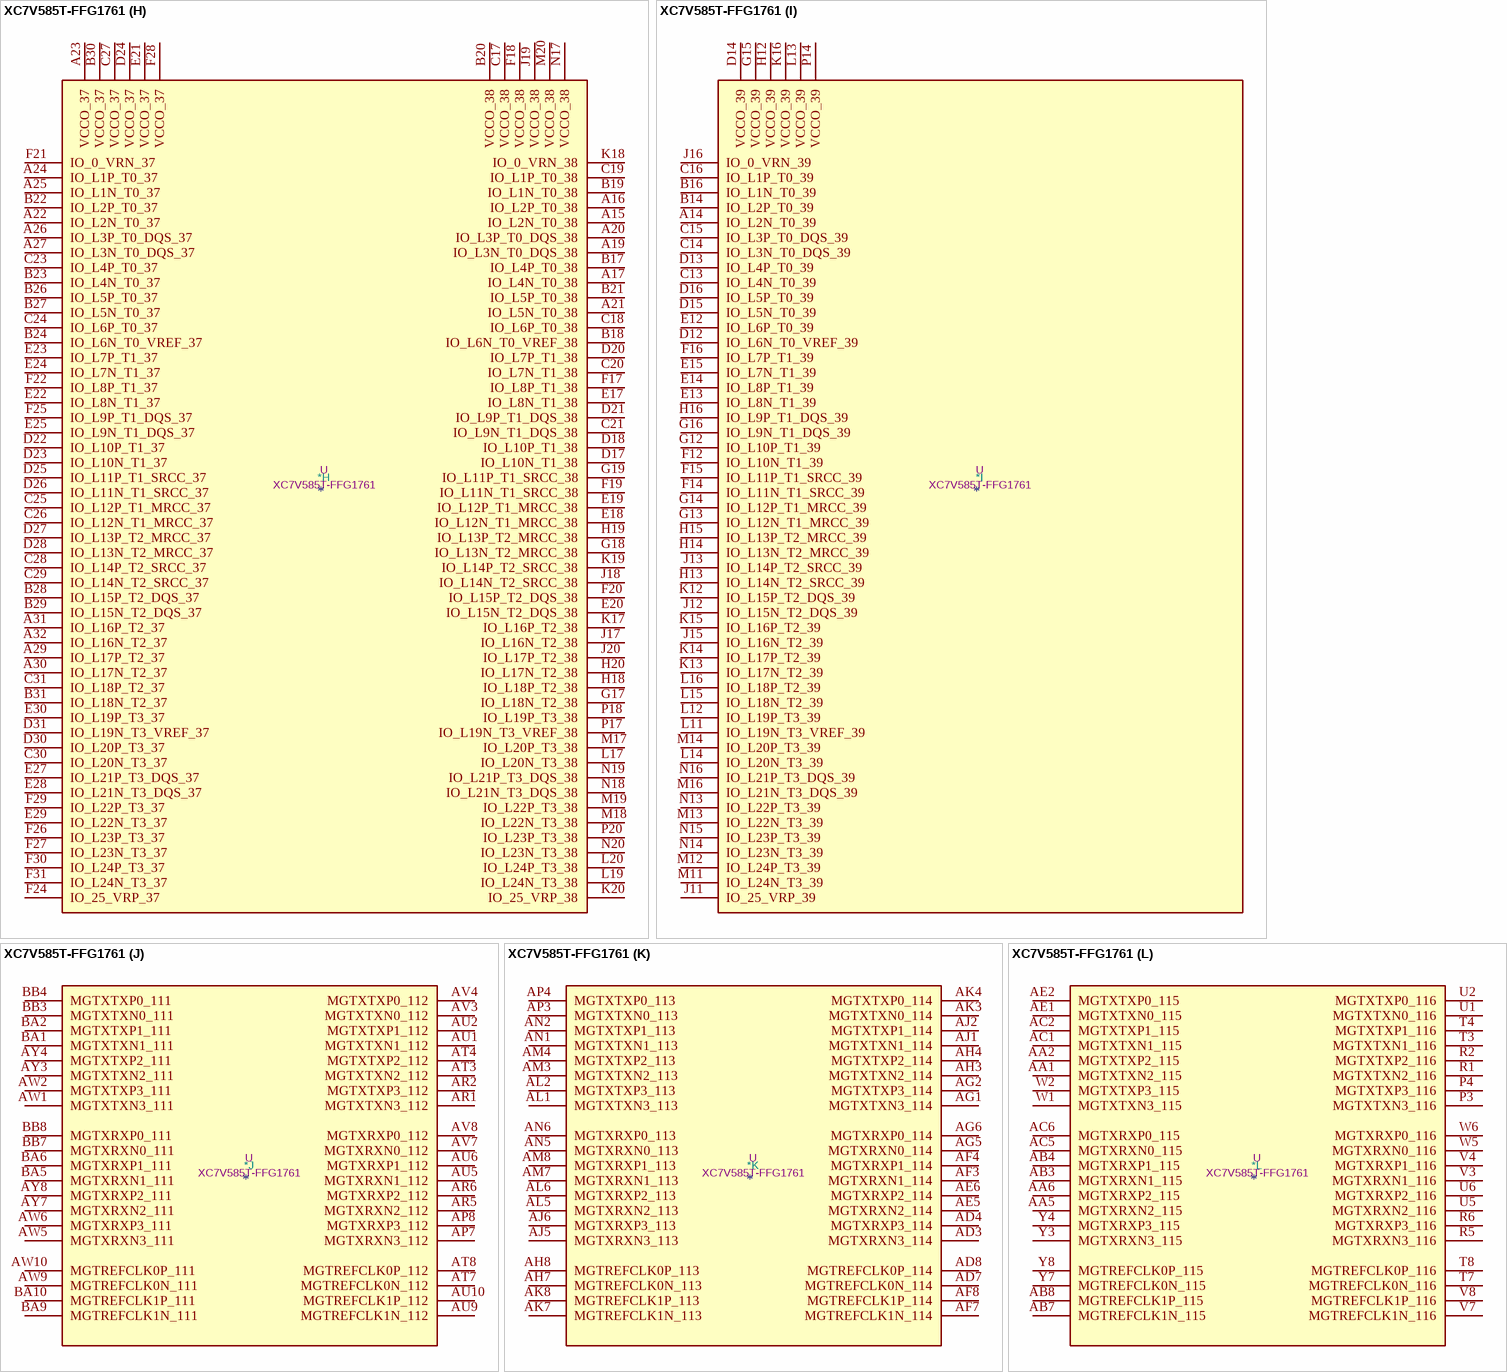
[diagram p8: symbol XC7V585T-FFG1761]

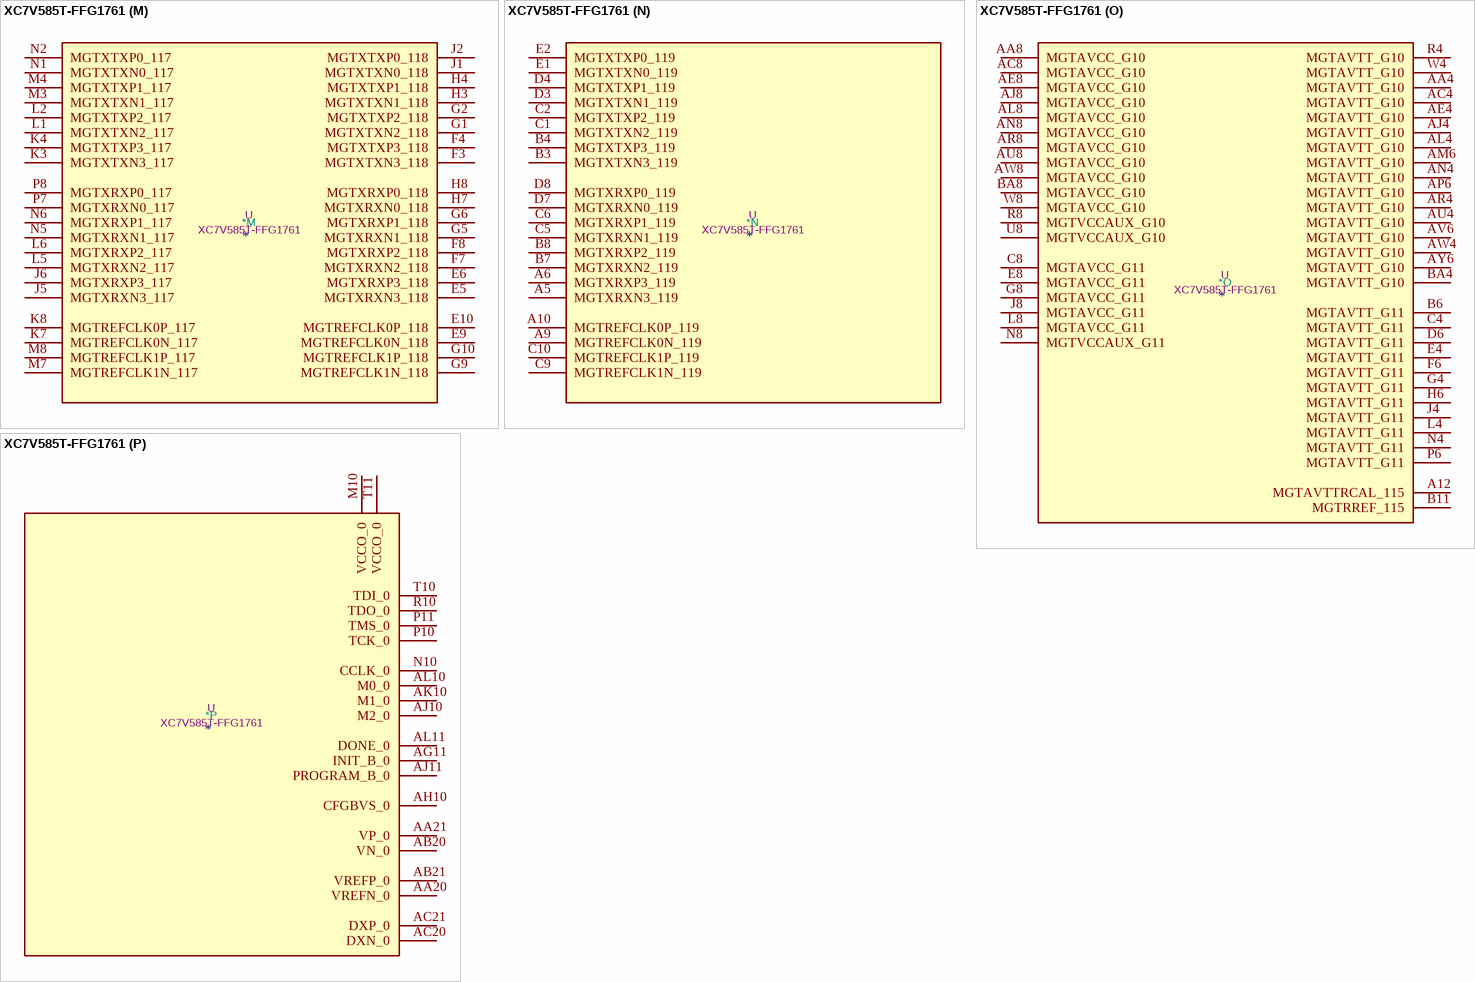
[diagram p9: symbol XC7V585T-FFG1761]

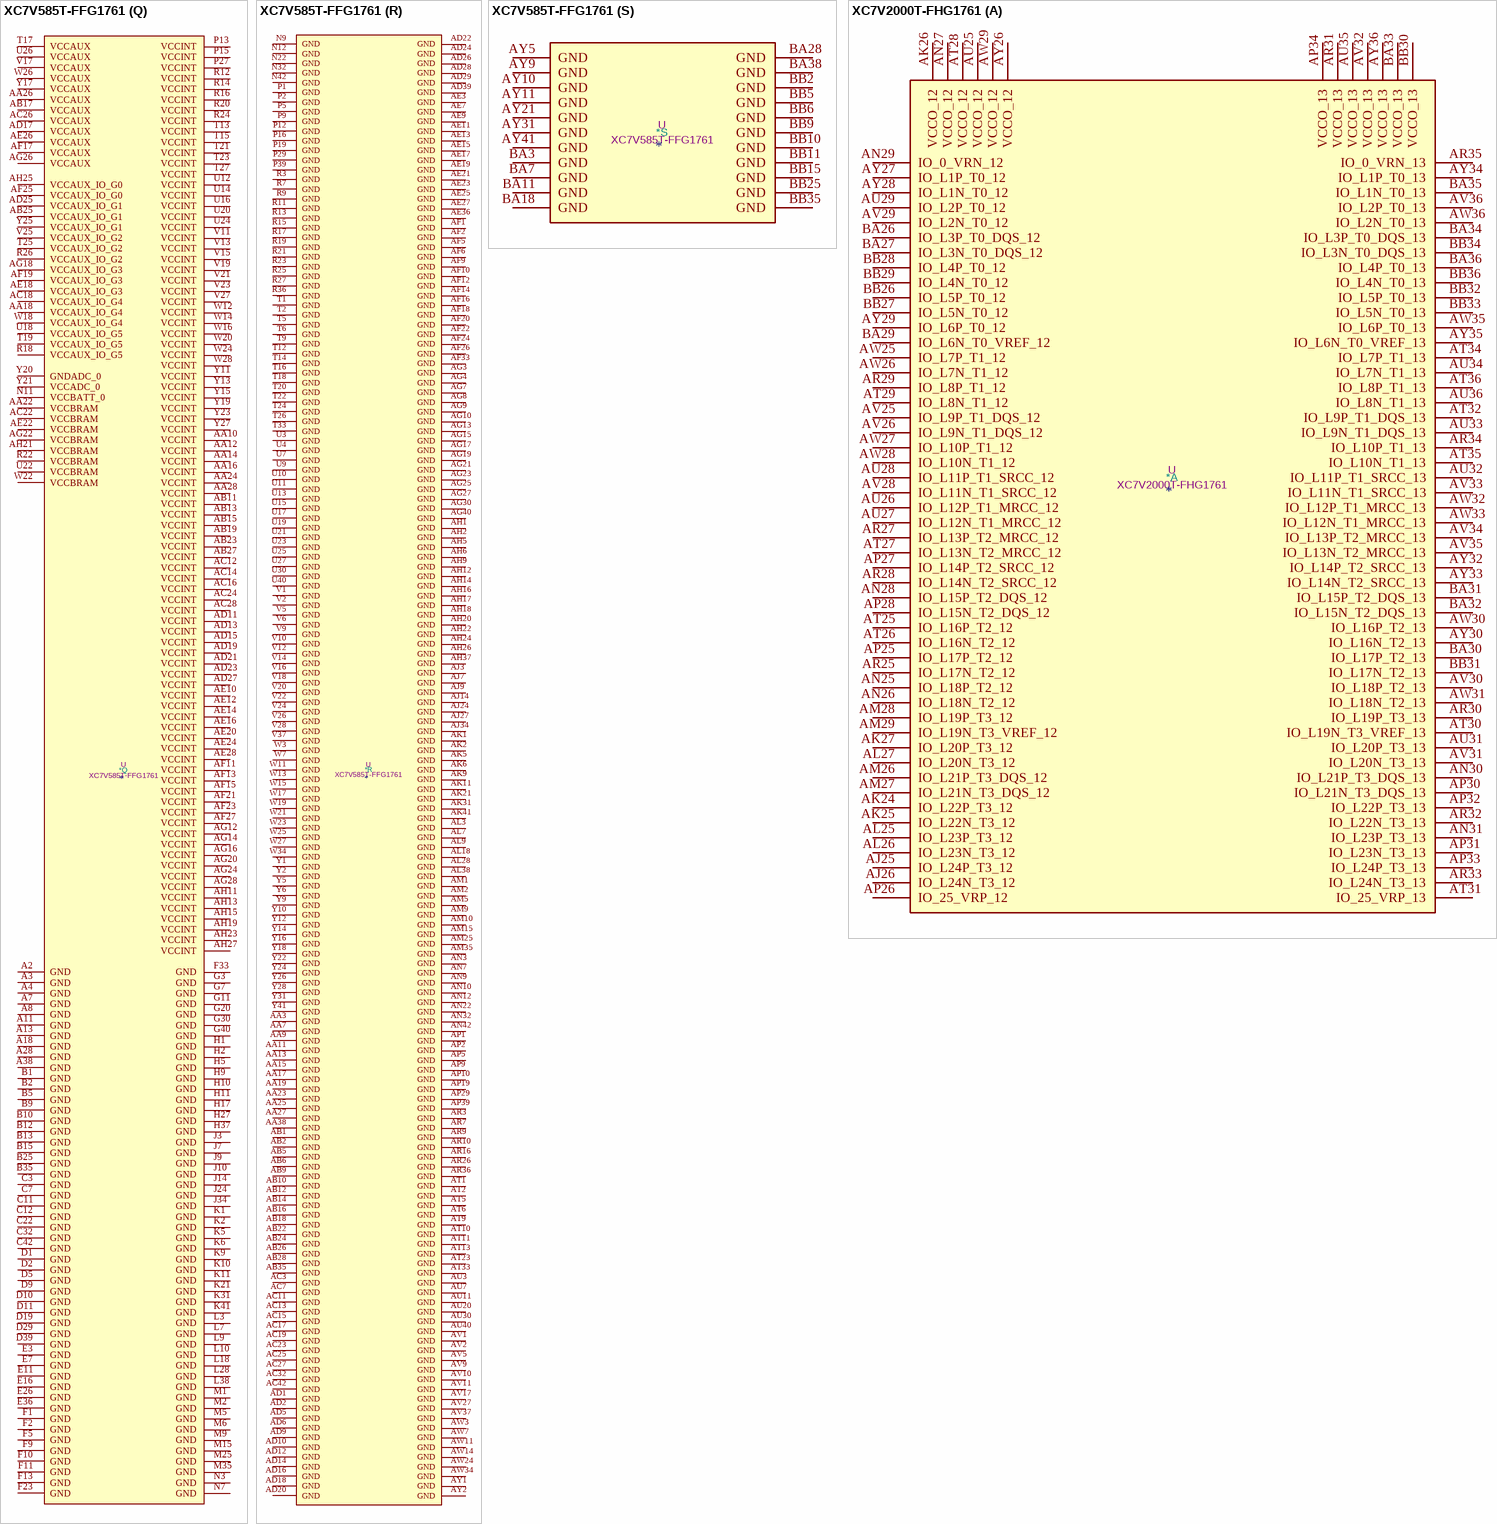
[diagram p10: symbols XC7V585T-FFG1761 to XC7V2000T-FHG1761]